# Altium schematic symbol library RobonAUT.SchLib: 9 symbols
Pins are listed as number, name and electrical type; pins without a type are passive.

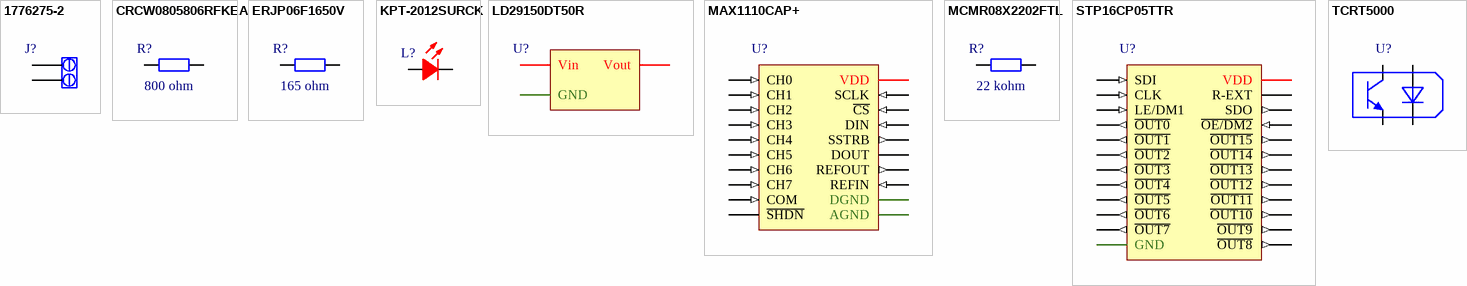
[diagram p0: symbols 1776275-2 to TCRT5000]

## 1776275-2
designator J?  (value not drawn)
Wire-To-Board Terminal Block, 3.5 mm, 2 Ways, 26 AWG, 18 AWG, 0.9 mm², Screw
footprint Model Name (Footprint not found)
footprint 2-Pin W-t-B (1776275-2)
pins: 1, 2

## CRCW0805806RFKEA
designator R?  Resistance: 800 ohm  (hidden comment: *)
RES, THICK FILM, 806R, 1%, 0.125W, 0805
footprint 0805-W
pins: 1, 2

## ERJP06F1650V
designator R?  Resistance: 165 ohm  (hidden comment: *)
SMD Chip Resistor, 165 ohm, ERJP06 Series, 400 V, Thick Film, 0805 [2012 Metric], 500 mW
footprint 0805-W
pins: 1, 2

## KPT-2012SURCK
designator L?  (value not drawn)
LED, Low Power, Red, SMD, 2 mA, 1.95 V, 630 nm
footprint 0808-LED
pins: A, K

## LD29150DT50R
designator U?  (value not drawn)
1.5 A, very low drop voltage regulators
footprint 3-Pin DPAK (TO-252)
pins: 1 Vin (power), 2 GND (power), 3 Vout (power)

## MAX1110CAP+
designator U?  (value not drawn)
Analogue to Digital Converter, Low Power, 8 bit, 50 kSPS, Single, 2.7 V, 5.5 V, SSOP
footprint 20-Pin SSOP
pins: 1 CH0 (in), 2 CH1 (in), 3 CH2 (in), 4 CH3 (in), 5 CH4 (in), 6 CH5 (in), 7 CH6 (in), 8 CH7 (in), 9 COM (in), 10 ~{SHDN} (hiz), 11 REFIN (in), 12 REFOUT (out), 13 AGND (power), 14 DGND (power), 15 DOUT, 16 SSTRB (out), 17 DIN (in), 18 ~{CS} (in), 19 SCLK (in), 20 VDD (power)

## MCMR08X2202FTL
designator R?  Resistance: 22 kohm  (hidden comment: *)
SMD Chip Resistor, Ceramic, 22 kohm, MCMR Series, 150 V, Thick Film, 0805 [2012 Metric], 125 mW
footprint 0805-W
pins: 1, 2

## STP16CP05TTR
designator U?  (value not drawn)
Led Driver, 16 Outputs, Constant Current, 3V-5.5V in, 30MHz switch, 20V/100mA out, TSSOP-24
footprint 24-Pin TSSOP
pins: 1 GND (power), 2 SDI (in), 3 CLK (in), 4 LE/DM1 (in), 5 ~{OUT0} (out), 6 ~{OUT1} (out), 7 ~{OUT2} (out), 8 ~{OUT3} (out), 9 ~{OUT4} (out), 10 ~{OUT5} (out), 11 ~{OUT6} (out), 12 ~{OUT7} (out), 13 ~{OUT8} (out), 14 ~{OUT9} (out), 15 ~{OUT10} (out), 16 ~{OUT11} (out), 17 ~{OUT12} (out), 18 ~{OUT13} (out), 19 ~{OUT14} (out), 20 ~{OUT15} (out), 21 ~{OE/DM2} (in), 22 SDO (out), 23 R-EXT, 24 VDD (power)

## TCRT5000
designator U?  (value not drawn)
Reflective Photo Interrupter, Phototransistor, Through Hole, 15 mm, 60 mA, 5 Vr, 1.25 Vf
footprint TCRT5000
footprint TCRT5000_NO_HOLE
pins: A, C, E, K